# EAGLE library part 6PIN (library C3-Connector)
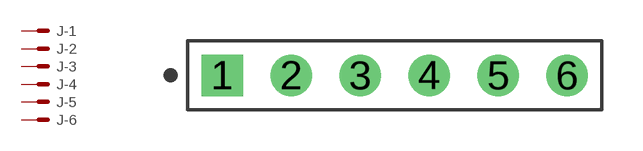
[diagram p19: symbol with the pads of 100-6X1-HEADER; footprint 100-6X1-HEADER]

Designator prefix J; gates -1=M -2=M -3=M -4=M -5=M -6=M

## 6PIN100  [100-6X1-HEADER]
1  -1:S  pas
2  -2:S  pas
3  -3:S  pas
4  -4:S  pas
5  -5:S  pas
6  -6:S  pas

## Footprint 100-6X1-HEADER (pad centres in mm)
drill 1.016 square: 1 -6.35,0
drill 1.016: 2 -3.81,0; 3 -1.27,0; 4 1.27,0; 5 3.81,0; 6 6.35,0